# EAGLE library part IMU_LSM9DS1TR (library quadparts_connie)
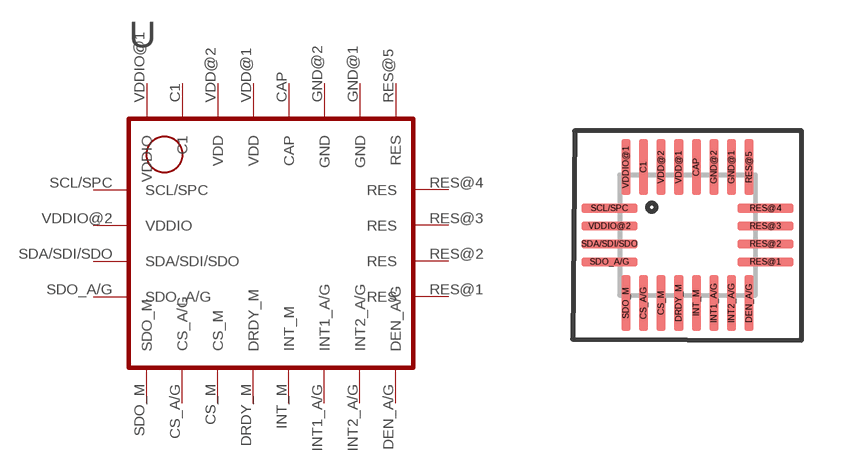
[diagram p0: symbol with the pads of IMU_LSM9DS1TR; footprint IMU_LSM9DS1TR]

Designator prefix U

## IMU_LSM9DS1TR (CREATOR: Connie Du; DIST: Digikey; DISTPN: 497-14946-1-ND; MFR: STMicroelectronics; MPN: LSM9DS1TR)  [IMU_LSM9DS1TR]
C1  C1
CAP  CAP
CS_A/G  CS_A/G
CS_M  CS_M
DEN_A/G  DEN_A/G
DRDY_M  DRDY_M
GND@1  GND
GND@2  GND
INT1_A/G  INT1_A/G
INT2_A/G  INT2_A/G
INT_M  INT_M
RES@1  RES
RES@2  RES
RES@3  RES
RES@4  RES
RES@5  RES
SCL/SPC  SCL/SPC
SDA/SDI/SDO  SDA/SDI/SDO
SDO_A/G  SDO_A/G
SDO_M  SDO_M
VDD@1  VDD
VDD@2  VDD
VDDIO@1  VDDIO
VDDIO@2  VDDIO

## Footprint IMU_LSM9DS1TR (pad centres in mm)
smd 0.23 x 1.4: C1 -1.1,1.7; CAP 0.22,1.7; CS_A/G -1.1,-1.7; CS_M -0.66,-1.7; DEN_A/G 1.54,-1.7; DRDY_M -0.22,-1.7; GND@1 1.1,1.7; GND@2 0.66,1.7; INT1_A/G 0.66,-1.7; INT2_A/G 1.1,-1.7; INT_M 0.22,-1.7; RES@5 1.54,1.7; SDO_M -1.54,-1.7; VDD@1 -0.22,1.7; VDD@2 -0.66,1.7; VDDIO@1 -1.54,1.7
smd 1.4 x 0.23: RES@1 1.95,-0.67; RES@2 1.95,-0.223; RES@3 1.95,0.223; RES@4 1.95,0.67; SCL/SPC -1.95,0.67; SDA/SDI/SDO -1.95,-0.223; SDO_A/G -1.95,-0.67; VDDIO@2 -1.95,0.223